# EAGLE library part ICSP (library atmega328_breakout)
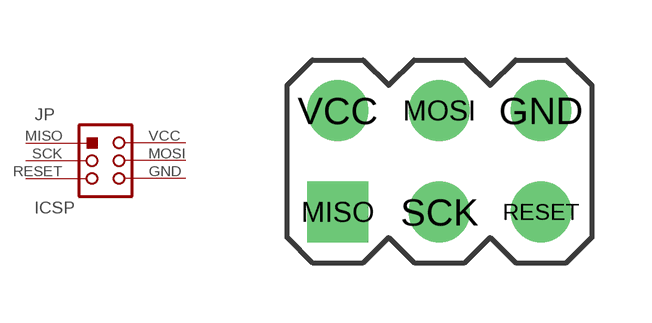
[diagram p1: symbol with the pads of ICSP; footprint ICSP]

Designator prefix JP

## ICSP  [ICSP]
GND  GND  pwr
MISO  MISO  pas
MOSI  MOSI  pas
RESET  RESET  pas
SCK  SCK  pas
VCC  VCC  pwr

## Footprint ICSP (pad centres in mm)
drill 1.016: GND 2.54,1.27; MOSI 0,1.27; RESET 2.54,-1.27; SCK 0,-1.27; VCC -2.54,1.27
drill 1.016 square: MISO -2.54,-1.27